# Altium footprint library PcbLib1.PcbLib: 38 footprints (part 2 of 3)
Each footprint in its own frame and in the unit in brackets; x right, y up, seen from the top. Pads: shape width x height; smd on the part's side, far side on the other; paste and mask are expansions set on the pad; w line width, h text height; cw(c..) or ccw(c..) is an arc to the next point about the centre after c.
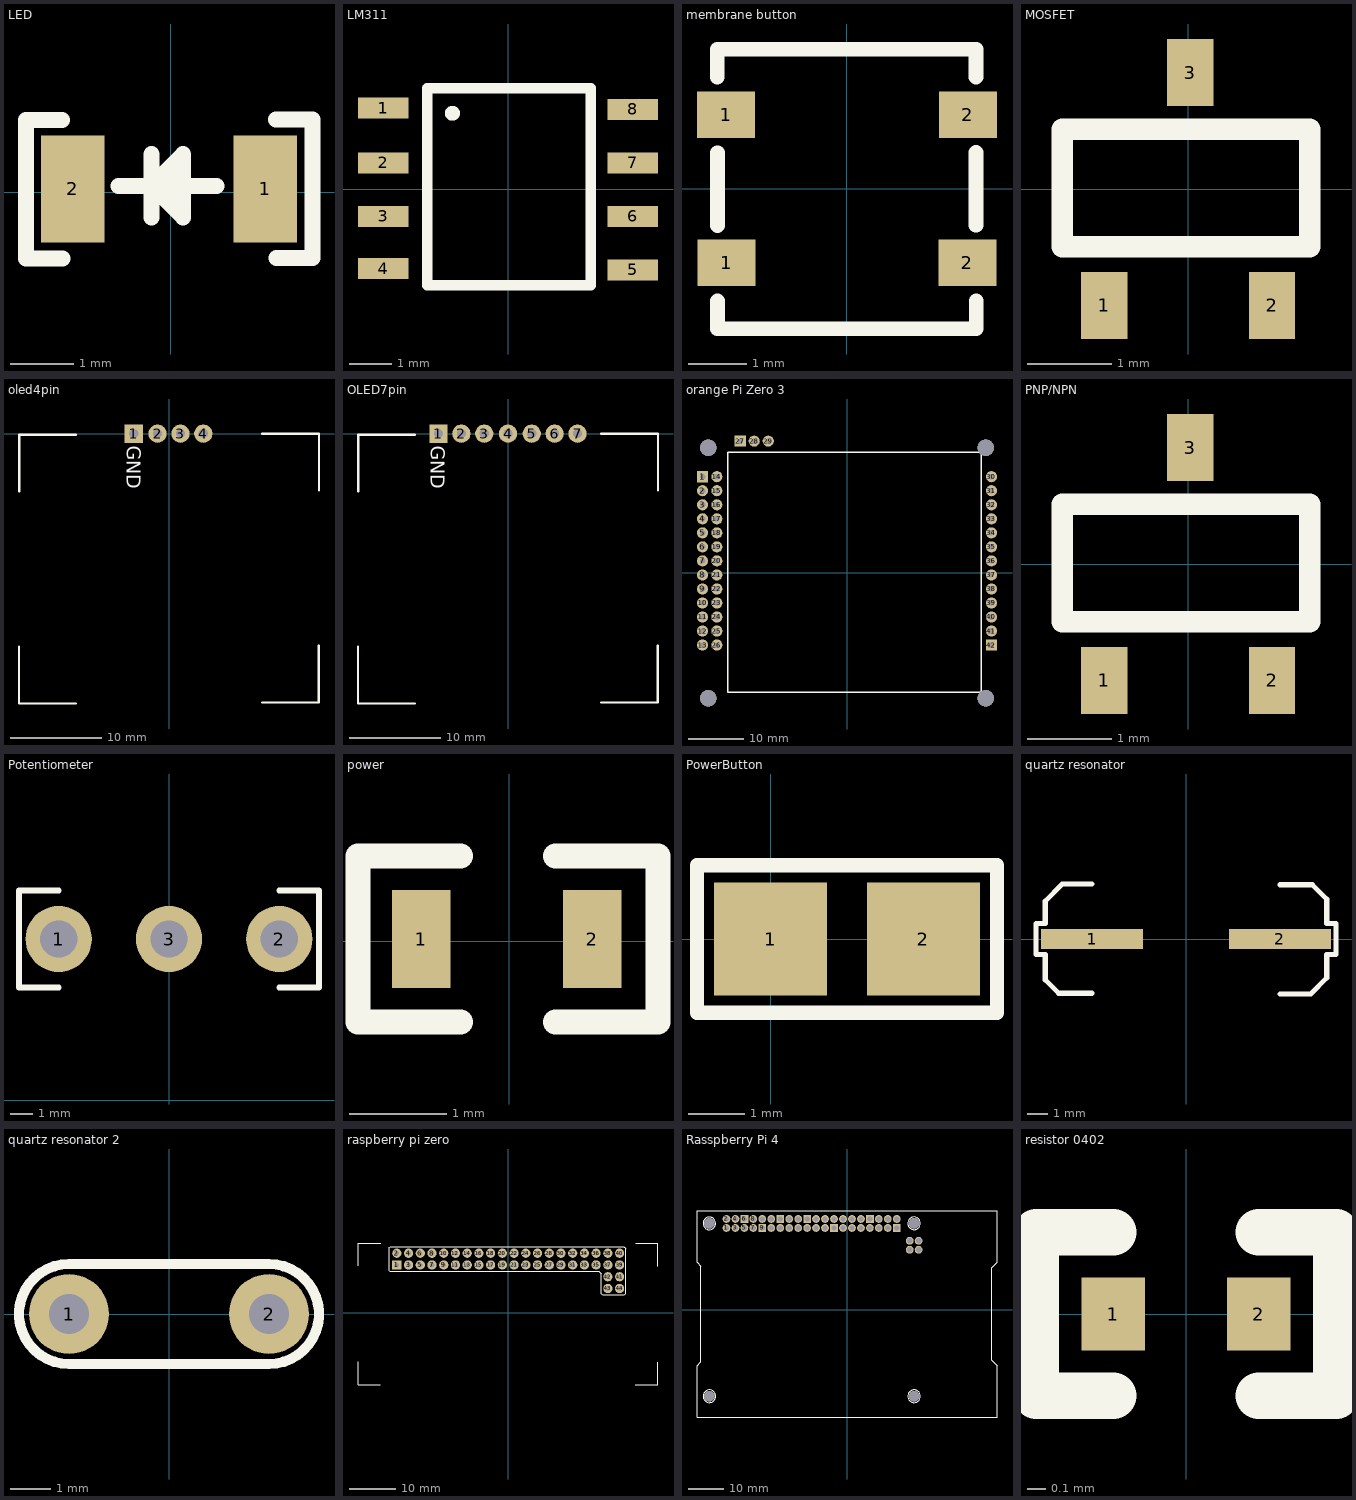
[diagram p1: the footprints below, top view; thin cyan lines are the x and y axes]

## LED [mm]
pads (2):
  rect 1x1.7 smd: 1(1.5,0.05) 2(-1.55,0.05)
Top Overlay:
  lines w0.254: -1.717,1.145 -2.292,1.145 -2.292,-1.045 -2.288,-1.05 -1.713,-1.05 ; -0.825,0.1 0.725,0.1 ; -0.3,-0.4 -0.3,0.1 ; -0.3,0.6 -0.3,0.1 ; -0.05,-0.15 0.117,0.183 -0.05,0.35 ; 1.67,1.15 2.245,1.15 ; 1.675,-1.045 2.25,-1.045 2.25,1.145 ; -0.3,0.1 0.2,-0.4 0.2,0.6 -0.3,0.1
3D body "Surface Mount Chip LED 3.2x1.6mm.stp": height 1.1, standoff -0.01, extent -1.6,-0.725 1.6,0.875

## LM311 [mm]
pads (8):
  rect 1.2x0.5 smd: 1(-2.975,1.925) 2(-2.975,0.625) 3(-2.975,-0.65) 4(-2.975,-1.9) 5(2.975,-1.925) 6(2.975,-0.65) 7(2.975,0.625) 8(2.975,1.9)
Top Overlay:
  circle w0.254: c-1.325,1.805 r0.05
  lines w0.254: -1.925,-2.295 -1.925,2.405 1.975,2.405 1.975,-2.295 -1.925,-2.295
3D body "SOIC08 narrow.stp": height 2, standoff 0, extent -3.082,-2.495 3.082,2.505

## membrane button [mm]
pads (4):
  rect 1x0.8 smd: 1(-2.075,1.275) 1(-2.065,-1.274) 2(2.075,-1.275) 2(2.085,1.276)
Top Overlay:
  lines w0.254: -2.225,1.925 -2.225,2.4 2.225,2.4 2.225,1.925 ; -2.222,-1.93 -2.222,-2.405 2.228,-2.405 2.228,-1.93 ; -2.222,-0.63 -2.222,0.62 ; 2.225,-0.625 2.225,0.625
3D body "4.8x4.8x0.55mm.stp": height 0.84, standoff 0.15, extent -2.222,-2.388 2.222,2.388

## MOSFET [mm]
pads (3):
  rect 0.55x0.8 smd: 1(-1,-1.387) 2(1,-1.387) 3(0.025,1.388)
Top Overlay:
  lines w0.254: -1.5,-0.687 -1.5,0.713 1.45,0.713 1.45,-0.687 -1.5,-0.687
3D body "SOT23-3.stp": height 1.2, standoff 0.02, extent -1.5,-1.41 1.5,1.425

## oled4pin [mm]
pads (4):
  rect 2x2 hole 1: 1(-3.85,0)
  round 2 hole 1: 2(-1.25,0) 3(1.25,0) 4(3.75,0)
Top Overlay:
  lines w0.254: -16.4,-23.3 -16.4,-29.5 -10.2,-29.5 ; -16.374,-6.302 -16.374,-0.102 -10.174,-0.102 ; 10.174,-29.398 16.374,-29.398 16.374,-23.198 ; 10.2,0 16.4,0 16.4,-6.2
  text "GND" at -4.621,-1.304 h1.52
3D body "AZ-Delivery - OLED13 IIC.stp": height 5.1, standoff -6.1, extent -17.7,-31.5 17.7,2

## OLED7pin [mm] "HiLetgo - DM-OLED13-625, 1.3\", 128x64 Pixel, SPI"
pads (7):
  rect 2x2 hole 1: 1(-7.6,0)
  round 2 hole 1: 2(-5.1,0) 3(-2.6,0) 4(0,0) 5(2.6,0) 6(5.1,0) 7(7.6,0)
Top Overlay:
  lines w0.254: -16.4,-23.3 -16.4,-29.5 -10.2,-29.5 ; -16.374,-6.302 -16.374,-0.102 -10.174,-0.102 ; 10.174,-29.398 16.374,-29.398 16.374,-23.198 ; 10.2,0 16.4,0 16.4,-6.2
  text "GND" at -8.421,-1.329 h1.52
3D body "HiLetgo - DM-OLED13-625.stp": height 5.1, standoff -6.1, extent -17.7,-31.5 17.7,2

## orange Pi Zero 3 [mm]
pads (42):
  rect 2x2 hole 1: 1(-26,17.325) 27(-19.225,23.725) 42(26,-12.975)
  round 2 hole 1: 2(-26,14.8) 3(-26,12.275) 4(-26,9.75) 5(-26,7.225) 6(-26,4.7) 7(-26,2.175) 8(-26,-0.35) 9(-26,-2.875) 10(-26,-5.4) 11(-26,-7.925) 12(-26,-10.45) 13(-26,-12.975) 14(-23.425,17.325) 15(-23.425,14.8) 16(-23.425,12.275) 17(-23.425,9.75) 18(-23.425,7.225) 19(-23.425,4.7) 20(-23.425,2.175) 21(-23.425,-0.35) 22(-23.425,-2.875) 23(-23.425,-5.4) 24(-23.425,-7.925) 25(-23.425,-10.45) 26(-23.425,-12.975) 28(-16.7,23.725) 29(-14.175,23.725) 30(26,17.325) 31(26,14.8) 32(26,12.275) 33(26,9.75) 34(26,7.225) 35(26,4.7) 36(26,2.175) 37(26,-0.35) 38(26,-2.875) 39(26,-5.4) 40(26,-7.925) 41(26,-10.45)
via -24.95,-22.55 diameter 3 hole 3
via 24.95,-22.55 diameter 3 hole 3
via -24.95,22.55 diameter 3 hole 3
via 24.95,22.55 diameter 3 hole 3
Top Overlay:
  lines w0.254: -21.45,-21.5 -21.45,21.75 24.15,21.75 24.15,-21.5 -21.45,-21.5
3D body "OrangePiZero3.stp": height 17.7, standoff 0.8, extent -27.5,-26.2 27.5,30.227

## PNP/NPN [mm]
pads (3):
  rect 0.55x0.8 smd: 1(-1,-1.387) 2(1,-1.387) 3(0.025,1.388)
Top Overlay:
  lines w0.254: -1.5,-0.687 -1.5,0.713 1.45,0.713 1.45,-0.687 -1.5,-0.687
3D body "SOT23-3.stp": height 1.2, standoff 0.02, extent -1.5,-1.41 1.5,1.425

## Potentiometer [mm]
pads (3):
  round 3 hole 1.7: 1(-5,7.3) 2(5,7.3) 3(0,7.3)
Top Overlay:
  lines w0.254: -5,5.1 -6.8,5.1 -6.8,9.5 -5,9.5 ; 5,5.1 6.8,5.1 6.8,9.5 5,9.5
3D body "Potentiometer.STEP": height 20.69, standoff -3, extent -8.25,-9.785 8.25,13.215

## power [mm]
pads (2):
  rect 0.6x1 smd: 1(-0.9,0.025) 2(0.85,0.025)
Top Overlay:
  lines w0.254: -0.5,-0.825 -1.55,-0.825 -1.55,0.875 -0.5,0.875 ; 0.475,-0.825 1.525,-0.825 1.525,0.875 0.475,0.875

## PowerButton [mm]
pads (2):
  rect 2x2 smd: 1(0,0) 2(2.7,0)
Top Overlay:
  lines w0.254: -1.3,-1.3 4,-1.3 4,1.3 -1.3,1.3 -1.3,-1.3

## quartz resonator [mm]
pads (2):
  rect 5x1 smd: 1(-4.6,0) 2(4.6,0)
Top Overlay:
  lines w0.254: -4.6,-2.662 -6.238,-2.662 -6.9,-2 -6.9,-0.763 -7.35,-0.763 -7.35,0.763 -6.9,0.763 -6.9,1.85 -6.062,2.688 -4.6,2.688 ; 4.6,-2.688 6.112,-2.688 6.9,-1.9 6.9,-0.763 7.35,-0.763 7.35,0.763 6.9,0.763 6.9,1.95 6.188,2.662 4.6,2.662
3D body "crystal-smd.STEP": height 4.3, standoff 0, extent -6.75,-2.5 6.75,2.5

## quartz resonator 2 [mm]
pads (2):
  round 2 hole 1: 1(-2.5,0) 2(2.5,0)
Top Overlay:
  lines w0.254: -2.5,-1.25 cw(c-2.5,0) -2.5,1.25 2.5,1.25 cw(c2.5,0) 2.5,-1.25 -2.5,-1.25

## raspberry pi zero [mm]
pads (44):
  rect 2x2 hole 1: 1(-24.085,10.3)
  round 2 hole 1: 2(-24.085,12.85) 3(-21.545,10.3) 4(-21.545,12.85) 5(-19.005,10.3) 6(-19.005,12.85) 7(-16.465,10.3) 8(-16.465,12.85) 9(-13.925,10.3) 10(-13.925,12.85) 11(-11.385,10.3) 12(-11.385,12.85) 13(-8.845,10.3) 14(-8.845,12.85) 15(-6.305,10.3) 16(-6.305,12.85) 17(-3.765,10.3) 18(-3.765,12.85) 19(-1.225,10.3) 20(-1.225,12.85) 21(1.315,10.3) 22(1.315,12.85) 23(3.855,10.3) 24(3.855,12.85) 25(6.395,10.3) 26(6.395,12.85) 27(8.935,10.3) 28(8.935,12.85) 29(11.475,10.3) 30(11.475,12.85) 31(14.015,10.3) 32(14.015,12.85) 33(16.555,10.3) 34(16.555,12.85) 35(19.095,10.3) 36(19.095,12.85) 37(21.635,10.3) 38(21.635,12.85) 39(24.175,10.3) 40(24.175,12.85) 41(24.175,7.75) 42(21.635,7.75) 43(21.635,5.2) 44(24.175,5.2)
Top Overlay:
  lines w0.254: -32.5,-10.725 -32.5,-15.65 -27.65,-15.65 ; -32.5,10.125 -32.5,14.975 -27.575,14.975 ; 27.575,-15.625 32.5,-15.625 32.5,-10.775 ; 27.65,15 32.5,15 32.5,10.075 ; -25.7,9.1 -25.5,8.9 19.7,8.9 20.2,8.4 20.2,4.1 20.5,3.8 25.2,3.8 25.5,4.1 25.5,13.9 25.1,14.3 -24.1,14.3 -25.5,14.3 -25.7,14.1 -25.7,9.1
3D body "raspberry_pi_zero.STEP": height 10, standoff -1.6, extent -32.5,-15.626 32.5,15

## Rasspberry Pi 4 [mm]
pads (48):
  round 2.2 hole 1.5: 1(-34.155,23.175) 2(-34.155,25.725) 3(-31.615,23.175) 4(-31.615,25.725) 5(-29.075,23.175) 7(-26.535,23.175) 8(-26.535,25.725) 10(-23.995,25.725) 11(-21.455,23.175) 12(-21.455,25.725) 13(-18.915,23.175) 15(-16.375,23.175) 16(-16.375,25.725) 17(-13.835,23.175) 18(-13.835,25.725) 19(-11.295,23.175) 21(-8.755,23.175) 22(-8.755,25.725) 23(-6.215,23.175) 24(-6.215,25.725) 26(-3.675,25.725) 27(-1.135,23.175) 28(-1.135,25.725) 29(1.405,23.175) 30(1.405,25.725) 31(3.945,23.175) 32(3.945,25.725) 33(6.485,23.175) 35(9.025,23.175) 36(9.025,25.725) 37(11.565,23.175) 38(11.565,25.725) 40(14.105,25.725) 41(17.75,16.975) 42(17.75,19.525) 43(20.29,16.975) 44(20.29,19.525)
  rect 2.2x2.2 hole 1.5: 6(-29.075,25.725) 9(-23.995,23.175) 14(-18.915,25.725) 20(-11.295,25.725) 25(-3.675,23.175) 34(6.485,25.725) 39(14.105,23.175)
  round 3 hole 3: ""(-39,-24.5) ""(-39,24.475) ""(19,-24.5) ""(19,24.5)
Top Overlay:
  circle w0.254: c19,24.5 r1.79
  circle w0.254: c19,-24.5 r1.79
  circle w0.254: c-39,-24.5 r1.79
  circle w0.254: c-39,24.475 r1.79
  lines w0.254: -42.5,-30.4 -42.5,-15.8 -41.4,-14.7 -41.4,12.3 -42.5,13.4 -42.5,28 42.5,28 42.5,13.4 40.95,11.85 40.95,-14.25 42.5,-15.8 42.5,-30.4 41.15,-30.4 23.825,-30.4 -42.5,-30.4
3D body "Raspberry Pi 4 Model B.SLDPRT": height 12, standoff -7.9, extent -42.5,-30.4 46.49,28

## resistor 0402 [mm]
pads (2):
  rect 0.35x0.4 smd: 1(-0.4,0) 2(0.4,0)
Top Overlay:
  lines w0.254: -0.4,-0.45 -0.825,-0.45 -0.825,0.45 -0.4,0.45 ; 0.4,-0.45 0.825,-0.45 0.825,0.45 0.4,0.45
3D body "Resistor_0402_Text.step": height 0.37, standoff 0.01, extent -0.508,-0.254 0.508,0.254